# Altium footprint library 300-021-12.PcbLib: 1 footprints
Each footprint in its own frame and in the unit in brackets; x right, y up, seen from the top. Pads: shape width x height; smd on the part's side, far side on the other; paste and mask are expansions set on the pad; w line width, h text height; cw(c..) or ccw(c..) is an arc to the next point about the centre after c.
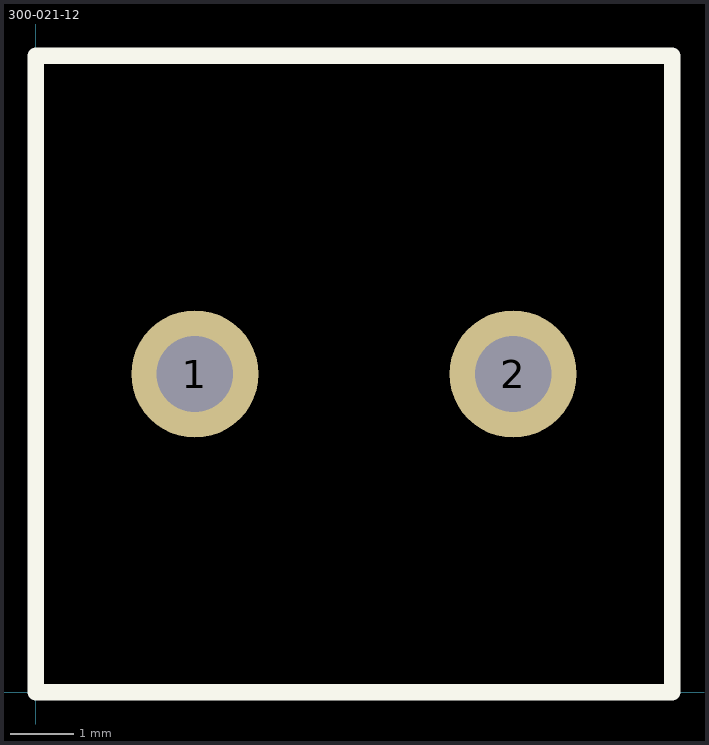
[diagram p0: the footprint, top view; thin cyan lines are the x and y axes]

## 300-021-12 [mm]
pads (2):
  round 2 hole 1.2: 1(2.5,5) 2(7.5,5)
Top Overlay:
  lines w0.254: 0,0 0,10 10,10 10,0 0,0